# Altium footprint library diy-modules.PCBLIB: 111 footprints (part 5 of 7)
Each footprint in its own frame and in the unit in brackets; x right, y up, seen from the top. Pads: shape width x height; smd on the part's side, far side on the other; paste and mask are expansions set on the pad; w line width, h text height; cw(c..) or ccw(c..) is an arc to the next point about the centre after c.
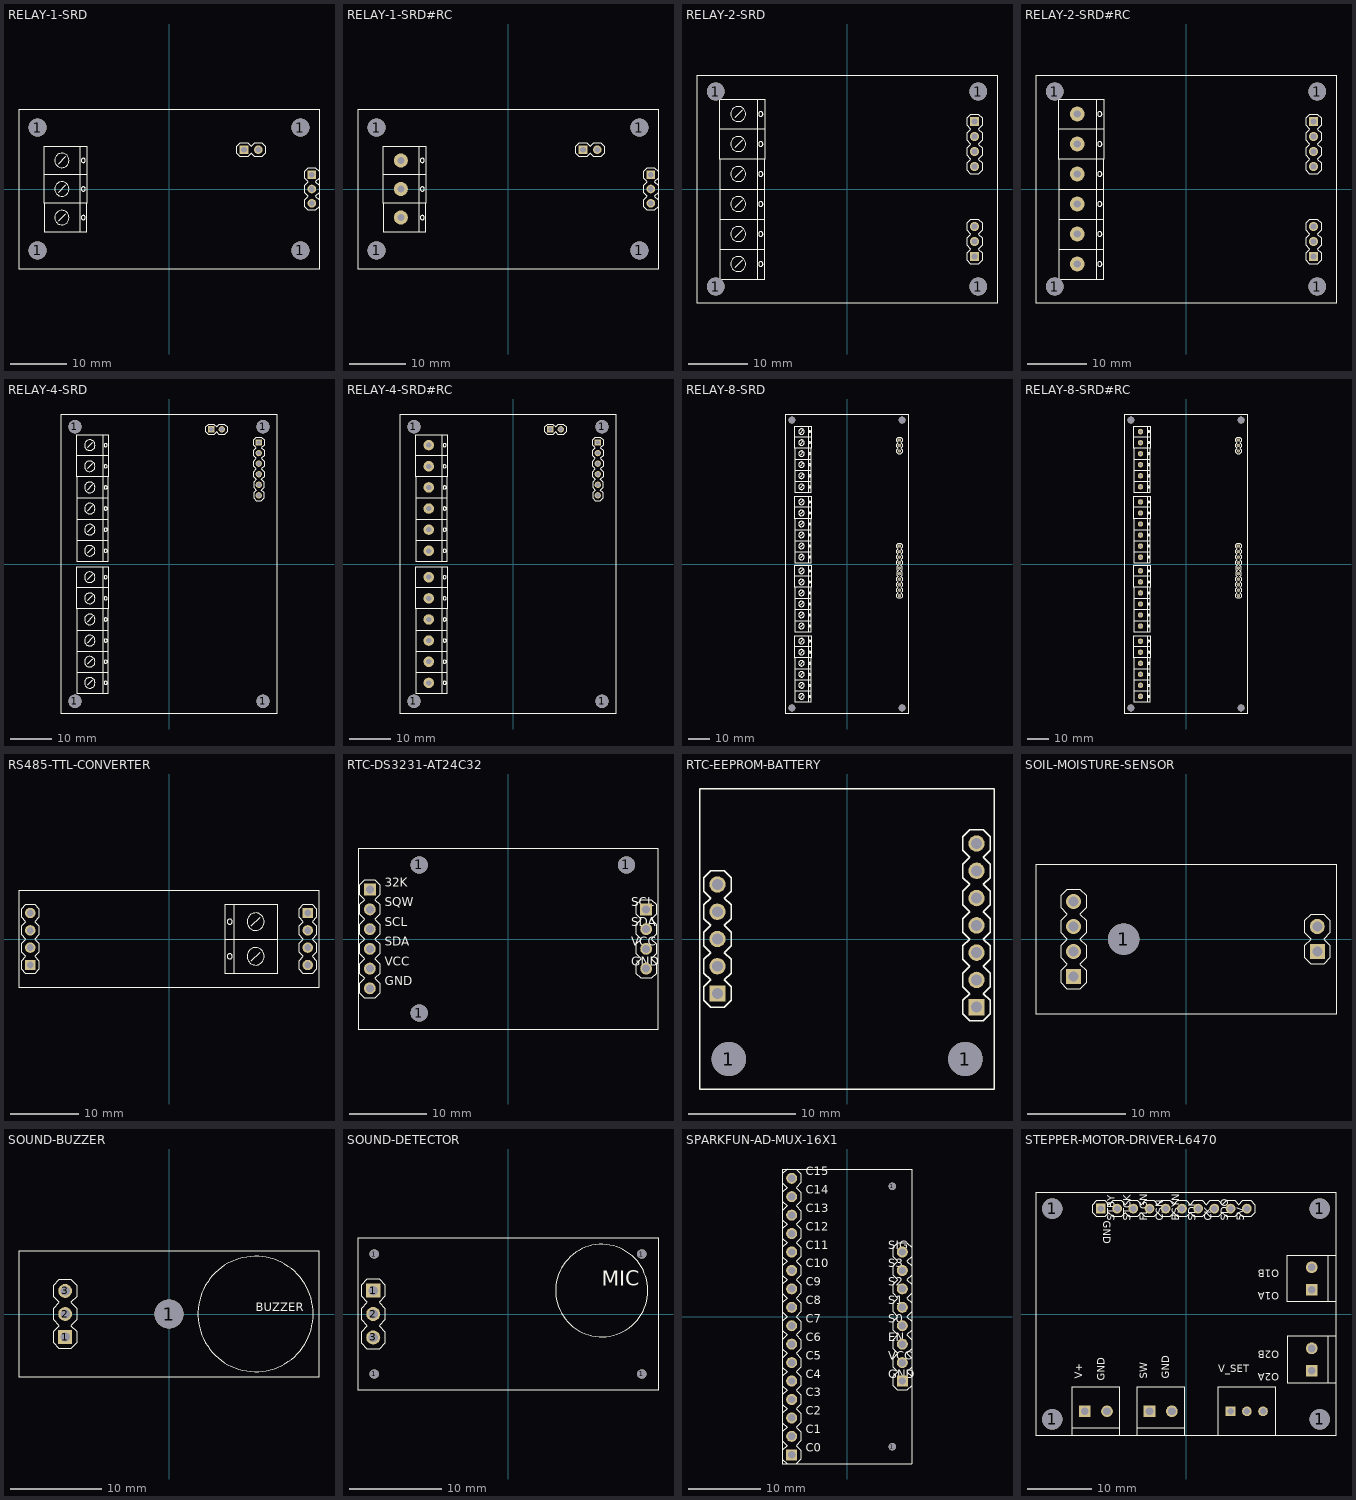
[diagram p4: the footprints below, top view; thin cyan lines are the x and y axes]

## RELAY-1-SRD [mil]
pads (9):
  round 126 hole 126: 1(-920,-430) 1(-920,430) 1(920,-430) 1(920,430)
  rect 60x60 hole 40: J1.1(1000,100) J2.1(525,275)
  round 60 hole 40: J1.2(1000,0) J1.3(1000,-100) J2.2(625,275)
Top Overlay:
  circle w5: c-600,200 r15
  circle w5: c-600,0 r15
  circle w5: c-600,-200 r15
  circle w5: c-750,0 r50
  circle w5: c-750,200 r50
  circle w5: c-750,-200 r50
  lines w5: -775,-225 -725,-175 ; -775,-25 -725,25 ; -775,175 -725,225 ; 1050,-125 1025,-150 975,-150 950,-125 950,-75 975,-50 950,-25 950,25 975,50 950,75 950,125 975,150 1025,150 1050,125 ; 1050,-75 1025,-50 1050,-25 ; 1050,25 1025,50 1050,75 ; -875,-100 -575,-100 ; -875,-100 -875,100 ; -875,-100 -875,-300 -625,-300 ; -875,100 -875,300 -625,300 ; -875,100 -575,100 ; -625,-300 -575,-300 -575,-100 ; -625,-300 -625,300 ; -625,300 -575,300 -575,100 ; -575,-100 -575,100 ; -1050,-560 1050,-560 1050,560 -1050,560 -1050,-560 ; 475,250 500,225 550,225 575,250 600,225 650,225 675,250 675,300 650,325 600,325 575,300 550,325 500,325 475,300 475,250

## RELAY-1-SRD#RC [mil]
pads (12):
  round 126 hole 126: 1(-920,-430) 1(-920,430) 1(920,-430) 1(920,430)
  rect 60x60 hole 40: J1.1(1000,100) J2.1(525,275)
  round 60 hole 40: J1.2(1000,0) J1.3(1000,-100) J2.2(625,275)
  round 99 hole 48: P1.1(-750,200) P1.2(-750,0) P1.3(-750,-200)
Top Overlay:
  circle w5: c-600,200 r15
  circle w5: c-600,0 r15
  circle w5: c-600,-200 r15
  lines w5: 1050,-125 1025,-150 975,-150 950,-125 950,-75 975,-50 950,-25 950,25 975,50 950,75 950,125 975,150 1025,150 1050,125 ; 1050,-75 1025,-50 1050,-25 ; 1050,25 1025,50 1050,75 ; -875,-100 -575,-100 ; -875,-100 -875,100 ; -875,-100 -875,-300 -625,-300 ; -875,100 -875,300 -625,300 ; -875,100 -575,100 ; -625,-300 -575,-300 -575,-100 ; -625,-300 -625,300 ; -625,300 -575,300 -575,100 ; -575,-100 -575,100 ; -1050,-560 1050,-560 1050,560 -1050,560 -1050,-560 ; 475,250 500,225 550,225 575,250 600,225 650,225 675,250 675,300 650,325 600,325 575,300 550,325 500,325 475,300 475,250

## RELAY-2-SRD [mil]
pads (11):
  round 119 hole 119: 1(-875,-650) 1(-875,650) 1(875,-650) 1(875,650)
  rect 60x60 hole 40: J1.1(850,450) J2.1(850,-450)
  round 60 hole 40: J1.2(850,350) J1.3(850,250) J1.4(850,150) J2.2(850,-350) J2.3(850,-250)
Top Overlay:
  circle w5: c-575,500 r15
  circle w5: c-575,300 r15
  circle w5: c-575,100 r15
  circle w5: c-575,-100 r15
  circle w5: c-575,-300 r15
  circle w5: c-575,-500 r15
  circle w5: c-725,300 r50
  circle w5: c-725,500 r50
  circle w5: c-725,100 r50
  circle w5: c-725,-100 r50
  circle w5: c-725,-300 r50
  circle w5: c-725,-500 r50
  lines w5: -750,-525 -700,-475 ; -750,-325 -700,-275 ; -750,-125 -700,-75 ; -750,75 -700,125 ; -750,275 -700,325 ; -750,475 -700,525 ; -850,-400 -850,-200 ; -850,-400 -550,-400 ; -850,-400 -850,-600 -600,-600 ; -850,-200 -850,0 ; -850,-200 -550,-200 ; -850,0 -850,200 ; -850,0 -550,0 ; -850,200 -550,200 ; -850,200 -850,400 ; -850,400 -850,600 -600,600 ; -850,400 -550,400 ; -600,-600 -550,-600 -550,-400 ; -600,-600 -600,600 ; -600,600 -550,600 -550,400 ; -550,-400 -550,-200 ; -550,-200 -550,0 ; -550,0 -550,200 ; -550,200 -550,400 ; -1000,-760 1000,-760 1000,760 -1000,760 -1000,-760 ; 800,-475 825,-500 875,-500 900,-475 900,-425 875,-400 900,-375 900,-325 875,-300 900,-275 900,-225 875,-200 825,-200 800,-225 800,-275 825,-300 800,-325 800,-375 825,-400 800,-425 800,-475 ; 800,125 825,100 875,100 900,125 900,175 875,200 900,225 900,275 875,300 900,325 900,375 875,400 900,425 900,475 875,500 825,500 800,475 800,425 825,400 800,375 800,325 825,300 800,275 800,225 825,200 800,175 800,125

## RELAY-2-SRD#RC [mil]
pads (17):
  round 119 hole 119: 1(-875,-650) 1(-875,650) 1(875,-650) 1(875,650)
  rect 60x60 hole 40: J1.1(850,450) J2.1(850,-450)
  round 60 hole 40: J1.2(850,350) J1.3(850,250) J1.4(850,150) J2.2(850,-350) J2.3(850,-250)
  round 99 hole 48: P1.1(-725,500) P1.2(-725,300) P1.3(-725,100) P1.4(-725,-100) P1.5(-725,-300) P1.6(-725,-500)
Top Overlay:
  circle w5: c-575,500 r15
  circle w5: c-575,300 r15
  circle w5: c-575,100 r15
  circle w5: c-575,-100 r15
  circle w5: c-575,-300 r15
  circle w5: c-575,-500 r15
  lines w5: -850,-400 -850,-200 ; -850,-400 -550,-400 ; -850,-400 -850,-600 -600,-600 ; -850,-200 -850,0 ; -850,-200 -550,-200 ; -850,0 -850,200 ; -850,0 -550,0 ; -850,200 -550,200 ; -850,200 -850,400 ; -850,400 -850,600 -600,600 ; -850,400 -550,400 ; -600,-600 -550,-600 -550,-400 ; -600,-600 -600,600 ; -600,600 -550,600 -550,400 ; -550,-400 -550,-200 ; -550,-200 -550,0 ; -550,0 -550,200 ; -550,200 -550,400 ; -1000,-760 1000,-760 1000,760 -1000,760 -1000,-760 ; 800,-475 825,-500 875,-500 900,-475 900,-425 875,-400 900,-375 900,-325 875,-300 900,-275 900,-225 875,-200 825,-200 800,-225 800,-275 825,-300 800,-325 800,-375 825,-400 800,-425 800,-475 ; 800,125 825,100 875,100 900,125 900,175 875,200 900,225 900,275 875,300 900,325 900,375 875,400 900,425 900,475 875,500 825,500 800,475 800,425 825,400 800,375 800,325 825,300 800,275 800,225 825,200 800,175 800,125

## RELAY-4-SRD [mil]
pads (12):
  round 126 hole 126: 1(-890,-1300) 1(-890,1300) 1(890,-1300) 1(890,1300)
  rect 60x60 hole 40: J1.1(850,1150) J2.1(400,1275)
  round 60 hole 40: J1.2(850,1050) J1.3(850,950) J1.4(850,850) J1.5(850,750) J1.6(850,650) J2.2(500,1275)
Top Overlay:
  circle w5: c-600,1125 r15
  circle w5: c-600,925 r15
  circle w5: c-600,725 r15
  circle w5: c-600,525 r15
  circle w5: c-600,325 r15
  circle w5: c-600,125 r15
  circle w5: c-750,925 r50
  circle w5: c-750,1125 r50
  circle w5: c-750,725 r50
  circle w5: c-750,525 r50
  circle w5: c-750,325 r50
  circle w5: c-750,125 r50
  circle w5: c-600,-125 r15
  circle w5: c-600,-325 r15
  circle w5: c-600,-525 r15
  circle w5: c-600,-725 r15
  circle w5: c-600,-925 r15
  circle w5: c-600,-1125 r15
  circle w5: c-750,-325 r50
  circle w5: c-750,-125 r50
  circle w5: c-750,-525 r50
  circle w5: c-750,-725 r50
  circle w5: c-750,-925 r50
  circle w5: c-750,-1125 r50
  lines w5: -775,-1150 -725,-1100 ; -775,-950 -725,-900 ; -775,-750 -725,-700 ; -775,-550 -725,-500 ; -775,-350 -725,-300 ; -775,-150 -725,-100 ; -775,100 -725,150 ; -775,300 -725,350 ; -775,500 -725,550 ; -775,700 -725,750 ; -775,900 -725,950 ; -775,1100 -725,1150 ; -875,-1025 -875,-825 ; -875,-1025 -575,-1025 ; -875,-1025 -875,-1225 -625,-1225 ; -875,-825 -875,-625 ; -875,-825 -575,-825 ; -875,-625 -875,-425 ; -875,-625 -575,-625 ; -875,-425 -575,-425 ; -875,-425 -875,-225 ; -875,-225 -875,-25 -625,-25 ; -875,-225 -575,-225 ; -875,225 -875,425 ; -875,225 -575,225 ; -875,225 -875,25 -625,25 ; -875,425 -875,625 ; -875,425 -575,425 ; -875,625 -875,825 ; -875,625 -575,625 ; -875,825 -575,825 ; -875,825 -875,1025 ; -875,1025 -875,1225 -625,1225 ; -875,1025 -575,1025 ; -625,-1225 -575,-1225 -575,-1025 ; -625,-1225 -625,-25 ; -625,-25 -575,-25 -575,-225 ; -625,25 -575,25 -575,225 ; -625,25 -625,1225 ; -625,1225 -575,1225 -575,1025 ; -575,-1025 -575,-825 ; -575,-825 -575,-625 ; -575,-625 -575,-425 ; -575,-425 -575,-225 ; -575,225 -575,425 ; -575,425 -575,625 ; -575,625 -575,825 ; -575,825 -575,1025 ; -1020,-1420 1020,-1420 1020,1420 -1020,1420 -1020,-1420 ; 350,1250 375,1225 425,1225 450,1250 475,1225 525,1225 550,1250 550,1300 525,1325 475,1325 450,1300 425,1325 375,1325 350,1300 350,1250 ; 800,625 800,675 825,700 800,725 800,775 825,800 800,825 800,875 825,900 800,925 800,975 825,1000 800,1025 800,1075 825,1100 800,1125 800,1175 825,1200 875,1200 900,1175 900,1125 875,1100 900,1075 900,1025 875,1000 900,975 900,925 875,900 900,875 900,825 875,800 900,775 900,725 875,700 900,675 900,625 875,600 825,600 800,625

## RELAY-4-SRD#RC [mil]
pads (24):
  round 126 hole 126: 1(-940,-1300) 1(-940,1300) 1(840,-1300) 1(840,1300)
  rect 60x60 hole 40: J1.1(800,1150) J2.1(350,1275)
  round 60 hole 40: J1.2(800,1050) J1.3(800,950) J1.4(800,850) J1.5(800,750) J1.6(800,650) J2.2(450,1275)
  round 99 hole 48: P1.1(-800,1125) P1.2(-800,925) P1.3(-800,725) P1.4(-800,525) P1.5(-800,325) P1.6(-800,125) P2.1(-800,-125) P2.2(-800,-325) P2.3(-800,-525) P2.4(-800,-725) P2.5(-800,-925) P2.6(-800,-1125)
Top Overlay:
  circle w5: c-650,1125 r15
  circle w5: c-650,925 r15
  circle w5: c-650,725 r15
  circle w5: c-650,525 r15
  circle w5: c-650,325 r15
  circle w5: c-650,125 r15
  circle w5: c-650,-125 r15
  circle w5: c-650,-325 r15
  circle w5: c-650,-525 r15
  circle w5: c-650,-725 r15
  circle w5: c-650,-925 r15
  circle w5: c-650,-1125 r15
  lines w5: -925,-1025 -925,-825 ; -925,-1025 -625,-1025 ; -925,-1025 -925,-1225 -675,-1225 ; -925,-825 -925,-625 ; -925,-825 -625,-825 ; -925,-625 -925,-425 ; -925,-625 -625,-625 ; -925,-425 -625,-425 ; -925,-425 -925,-225 ; -925,-225 -925,-25 -675,-25 ; -925,-225 -625,-225 ; -925,225 -925,425 ; -925,225 -625,225 ; -925,225 -925,25 -675,25 ; -925,425 -925,625 ; -925,425 -625,425 ; -925,625 -925,825 ; -925,625 -625,625 ; -925,825 -625,825 ; -925,825 -925,1025 ; -925,1025 -925,1225 -675,1225 ; -925,1025 -625,1025 ; -675,-1225 -625,-1225 -625,-1025 ; -675,-1225 -675,-25 ; -675,-25 -625,-25 -625,-225 ; -675,25 -625,25 -625,225 ; -675,25 -675,1225 ; -675,1225 -625,1225 -625,1025 ; -625,-1025 -625,-825 ; -625,-825 -625,-625 ; -625,-625 -625,-425 ; -625,-425 -625,-225 ; -625,225 -625,425 ; -625,425 -625,625 ; -625,625 -625,825 ; -625,825 -625,1025 ; -1070,-1420 970,-1420 970,1420 -1070,1420 -1070,-1420 ; 300,1250 325,1225 375,1225 400,1250 425,1225 475,1225 500,1250 500,1300 475,1325 425,1325 400,1300 375,1325 325,1325 300,1300 300,1250 ; 750,625 750,675 775,700 750,725 750,775 775,800 750,825 750,875 775,900 750,925 750,975 775,1000 750,1025 750,1075 775,1100 750,1125 750,1175 775,1200 825,1200 850,1175 850,1125 825,1100 850,1075 850,1025 825,1000 850,975 850,925 825,900 850,875 850,825 825,800 850,775 850,725 825,700 850,675 850,625 825,600 775,600 750,625

## RELAY-8-SRD [mil]
pads (17):
  round 126 hole 126: 1(-1000,-2610) 1(-1000,2610) 1(1000,-2610) 1(1000,2610)
  rect 60x60 hole 40: J1.1(950,325) J2.1(950,2250)
  round 60 hole 40: J1.2(950,225) J1.3(950,125) J1.4(950,25) J1.5(950,-75) J1.6(950,-175) J1.7(950,-275) J1.8(950,-375) J1.9(950,-475) J1.10(950,-575) J2.2(950,2150) J2.3(950,2050)
Top Overlay:
  drawing of 246 lines, arcs and shapes, not listed

## RELAY-8-SRD#RC [mil]
pads (41):
  round 126 hole 126: 1(-1000,-2610) 1(-1000,2610) 1(1000,-2610) 1(1000,2610)
  rect 60x60 hole 40: J1.1(950,325) J2.1(950,2250)
  round 60 hole 40: J1.2(950,225) J1.3(950,125) J1.4(950,25) J1.5(950,-75) J1.6(950,-175) J1.7(950,-275) J1.8(950,-375) J1.9(950,-475) J1.10(950,-575) J2.2(950,2150) J2.3(950,2050)
  round 99 hole 48: P1.1(-825,2400) P1.2(-825,2200) P1.3(-825,2000) P1.4(-825,1800) P1.5(-825,1600) P1.6(-825,1400) P2.1(-825,1125) P2.2(-825,925) P2.3(-825,725) P2.4(-825,525) P2.5(-825,325) P2.6(-825,125) P3.1(-825,-125) P3.2(-825,-325) P3.3(-825,-525) P3.4(-825,-725) P3.5(-825,-925) P3.6(-825,-1125) P4.1(-825,-1400) P4.2(-825,-1600) P4.3(-825,-1800) P4.4(-825,-2000) P4.5(-825,-2200) P4.6(-825,-2400)
Top Overlay:
  drawing of 198 lines, arcs and shapes, not listed

## RS485-TTL-CONVERTER [mil]
pads (8):
  rect 60x60 hole 40: J1.1(-800,-150) J2.1(800,150)
  round 60 hole 40: J1.2(-800,-50) J1.3(-800,50) J1.4(-800,150) J2.2(800,50) J2.3(800,-50) J2.4(800,-150)
Top Overlay:
  circle w5: c500,-100 r50
  circle w5: c500,100 r50
  circle w5: c350,-100 r15
  circle w5: c350,100 r15
  lines w5: 475,-125 525,-75 ; 475,75 525,125 ; 325,0 325,-200 375,-200 ; 325,0 325,200 375,200 ; 325,0 625,0 ; 375,-200 625,-200 625,0 ; 375,-200 375,200 ; 375,200 625,200 625,0 ; -865,-280 865,-280 865,280 -865,280 -865,-280 ; -850,-175 -825,-200 -775,-200 -750,-175 -750,-125 -775,-100 -750,-75 -750,-25 -775,0 -750,25 -750,75 -775,100 -750,125 -750,175 -775,200 -825,200 -850,175 -850,125 -825,100 -850,75 -850,25 -825,0 -850,-25 -850,-75 -825,-100 -850,-125 -850,-175 ; 750,-175 775,-200 825,-200 850,-175 850,-125 825,-100 850,-75 850,-25 825,0 850,25 850,75 825,100 850,125 850,175 825,200 775,200 750,175 750,125 775,100 750,75 750,25 775,0 750,-25 750,-75 775,-100 750,-125 750,-175

## RTC-DS3231-AT24C32 [mil]
pads (13):
  round 87 hole 87: 1(-450,-375) 1(-450,375) 1(600,375)
  rect 60x60 hole 40: J1.1(-700,250) J2.1(700,150)
  round 60 hole 40: J1.2(-700,150) J1.3(-700,50) J1.4(-700,-50) J1.5(-700,-150) J1.6(-700,-250) J2.2(700,50) J2.3(700,-50) J2.4(700,-150)
Top Overlay:
  lines w5: -760,-460 760,-460 760,460 -760,460 -760,-460 ; -750,-275 -750,-225 -725,-200 -750,-175 -750,-125 -725,-100 -750,-75 -750,-25 -725,0 -750,25 -750,75 -725,100 -750,125 -750,175 -725,200 -750,225 -750,275 -725,300 -675,300 -650,275 -650,225 -675,200 -650,175 -650,125 -675,100 -650,75 -650,25 -675,0 -650,-25 -650,-75 -675,-100 -650,-125 -650,-175 -675,-200 -650,-225 -650,-275 -675,-300 -725,-300 -750,-275 ; 650,-175 675,-200 725,-200 750,-175 750,-125 725,-100 750,-75 750,-25 725,0 750,25 750,75 725,100 750,125 750,175 725,200 675,200 650,175 650,125 675,100 650,75 650,25 675,0 650,-25 650,-75 675,-100 650,-125 650,-175
  text "32K" at -625,250 h77.5
  text "SQW" at -625,150 h77.5
  text "SCL" at -625,50 h77.5
  text "SDA" at -625,-50 h77.5
  text "VCC" at -625,-150 h77.5
  text "GND" at -625,-250 h77.5
  text "SCL" at 625,150 h77.5
  text "SDA" at 625,50 h77.5
  text "VCC" at 625,-50 h77.5
  text "GND" at 625,-150 h77.5

## RTC-EEPROM-BATTERY [mil]
pads (14):
  round 126 hole 126: 1(-433.07,-440) 1(434,-440)
  rect 60x60 hole 40: J1.1(-475,-200) J2.1(475,-250)
  round 60 hole 40: J1.2(-475,-100) J1.3(-475,0) J1.4(-475,100) J1.5(-475,200) J2.2(475,-150) J2.3(475,-50) J2.4(475,50) J2.5(475,150) J2.6(475,250) J2.7(475,350)
Top Overlay:
  lines w5: -540,-550 540,-550 540,550 -540,550 -540,-550 ; -525,-225 -500,-250 -450,-250 -425,-225 -425,-175 -450,-150 -425,-125 -425,-75 -450,-50 -425,-25 -425,25 -450,50 -425,75 -425,125 -450,150 -425,175 -425,225 -450,250 -500,250 -525,225 -525,175 -500,150 -525,125 -525,75 -500,50 -525,25 -525,-25 -500,-50 -525,-75 -525,-125 -500,-150 -525,-175 -525,-225 ; 425,-275 450,-300 500,-300 525,-275 525,-225 500,-200 525,-175 525,-125 500,-100 525,-75 525,-25 500,0 525,25 525,75 500,100 525,125 525,175 500,200 525,225 525,275 500,300 525,325 525,375 500,400 450,400 425,375 425,325 450,300 425,275 425,225 450,200 425,175 425,125 450,100 425,75 425,25 450,0 425,-25 425,-75 450,-100 425,-125 425,-175 450,-200 425,-225 425,-275

## SOIL-MOISTURE-SENSOR [mil]
pads (7):
  round 126 hole 126: 1(-250,0)
  rect 60x60 hole 40: J1.1(-450,-150) J2.1(525,-50)
  round 60 hole 40: J1.2(-450,-50) J1.3(-450,50) J1.4(-450,150) J2.2(525,50)
Top Overlay:
  lines w5: -600,-300 600,-300 600,300 -600,300 -600,-300 ; -500,-175 -475,-200 -425,-200 -400,-175 -400,-125 -425,-100 -400,-75 -400,-25 -425,0 -400,25 -400,75 -425,100 -400,125 -400,175 -425,200 -475,200 -500,175 -500,125 -475,100 -500,75 -500,25 -475,0 -500,-25 -500,-75 -475,-100 -500,-125 -500,-175 ; 475,-75 500,-100 550,-100 575,-75 575,-25 550,0 575,25 575,75 550,100 500,100 475,75 475,25 500,0 475,-25 475,-75

## SOUND-BUZZER [mil]
pads (4):
  rect 60x60 hole 40: 1(-450,-100)
  round 126 hole 126: 1(0,0)
  round 60 hole 40: 2(-450,0) 3(-450,100)
Top Overlay:
  circle w5: c375,0 r250
  lines w5: -650,-275 650,-275 650,275 -650,275 -650,-275 ; -500,-125 -475,-150 -425,-150 -400,-125 -400,-75 -425,-50 -400,-25 -400,25 -425,50 -400,75 -400,125 -425,150 -475,150 -500,125 -500,75 -475,50 -500,25 -500,-25 -475,-50 -500,-75 -500,-125
  text "BUZZER" at 375,0 h62

## SOUND-DETECTOR [mil]
pads (7):
  rect 60x60 hole 40: 1(-575,100)
  round 40 hole 40: 1(-570.87,-255.91) 1(-570.87,256) 1(571,-255.91) 1(571,256)
  round 60 hole 40: 2(-575,0) 3(-575,-100)
Top Overlay:
  circle w5: c400,100 r197
  lines w5: -640,-325 640,-325 640,325 -640,325 -640,-325 ; -625,-125 -600,-150 -550,-150 -525,-125 -525,-75 -550,-50 -525,-25 -525,25 -550,50 -525,75 -525,125 -550,150 -600,150 -625,125 -625,75 -600,50 -625,25 -625,-25 -600,-50 -625,-75 -625,-125
  text "MIC" at 400,100 h108.5

## SPARKFUN-AD-MUX-16X1 [mil]
pads (26):
  round 40 hole 40: 1(246,-705.91) 1(246,706)
  rect 60x60 hole 40: J1.1(-300,-750) J2.1(300,-350)
  round 60 hole 40: J1.2(-300,-650) J1.3(-300,-550) J1.4(-300,-450) J1.5(-300,-350) J1.6(-300,-250) J1.7(-300,-150) J1.8(-300,-50) J1.9(-300,50) J1.10(-300,150) J1.11(-300,250) J1.12(-300,350) J1.13(-300,450) J1.14(-300,550) J1.15(-300,650) J1.16(-300,750) J2.2(300,-250) J2.3(300,-150) J2.4(300,-50) J2.5(300,50) J2.6(300,150) J2.7(300,250) J2.8(300,350)
Top Overlay:
  drawing of 178 lines, arcs and shapes, not listed
  text "C0" at -225,-750 h77.5
  text "C1" at -225,-650 h77.5
  text "C2" at -225,-550 h77.5
  text "C3" at -225,-450 h77.5
  text "C4" at -225,-350 h77.5
  text "C5" at -225,-250 h77.5
  text "C6" at -225,-150 h77.5
  text "C7" at -225,-50 h77.5
  text "C8" at -225,50 h77.5
  text "C9" at -225,150 h77.5
  text "C10" at -225,250 h77.5
  text "C11" at -225,350 h77.5
  text "C12" at -225,450 h77.5
  text "C13" at -225,550 h77.5
  text "C14" at -225,650 h77.5
  text "C15" at -225,750 h77.5
  text "GND" at 225,-350 h77.5
  text "VCC" at 225,-250 h77.5
  text "EN" at 225,-150 h77.5
  text "S0" at 225,-50 h77.5
  text "S1" at 225,50 h77.5
  text "S2" at 225,150 h77.5
  text "S3" at 225,250 h77.5
  text "SIG" at 225,350 h77.5

## STEPPER-MOTOR-DRIVER-L6470 [mil]
pads (25):
  round 126 hole 126: 1(-825,-650) 1(-825,650) 1(825,-650) 1(825,650)
  rect 60x60 hole 40: JP1.1(-525,650) R4.1(275,-600)
  round 60 hole 40: JP1.2(-425,650) JP1.3(-325,650) JP1.4(-225,650) JP1.5(-125,650) JP1.6(-25,650) JP1.7(75,650) JP1.8(175,650) JP1.9(275,650) JP1.10(375,650) R4.2(375,-600) R4.3(475,-600)
  rect 72x72 hole 48: JP5.1(-625,-600) JP6.1(775,150) JP7.1(775,-350) JP8.1(-225,-600)
  round 72 hole 48: JP5.2(-487,-600) JP6.2(775,288) JP7.2(775,-212) JP8.2(-87,-600)
Top Overlay:
  lines w5: -700,-750 -412,-750 ; -700,-750 -925,-750 -925,750 925,750 925,363 ; -700,-750 -700,-700 ; -700,-700 -700,-450 -412,-450 -412,-700 ; -700,-700 -412,-700 ; -412,-750 -300,-750 ; -412,-750 -412,-700 ; -300,-750 -12,-750 ; -300,-750 -300,-700 ; -300,-700 -300,-450 -12,-450 -12,-700 ; -300,-700 -12,-700 ; -12,-750 200,-750 ; -12,-750 -12,-700 ; 200,-750 550,-750 ; 200,-750 200,-450 550,-450 550,-750 ; 550,-750 925,-750 925,-425 ; 875,-425 625,-425 625,-137 875,-137 ; 875,-425 925,-425 ; 875,-425 875,-137 ; 875,-137 925,-137 ; 875,75 925,75 ; 875,75 625,75 625,363 875,363 ; 875,75 875,363 ; 875,363 925,363 ; 925,-425 925,-137 ; 925,-137 925,75 ; 925,75 925,363 ; -575,625 -550,600 -500,600 -475,625 -450,600 -400,600 -375,625 -350,600 -300,600 -275,625 -250,600 -200,600 -175,625 -150,600 -100,600 -75,625 -50,600 0,600 25,625 50,600 100,600 125,625 150,600 200,600 225,625 250,600 300,600 325,625 350,600 400,600 425,625 425,675 400,700 350,700 325,675 300,700 250,700 225,675 200,700 150,700 125,675 100,700 50,700 25,675 0,700 -50,700 -75,675 -100,700 -150,700 -175,675 -200,700 -250,700 -275,675 -300,700 -350,700 -375,675 -400,700 -450,700 -475,675 -500,700 -550,700 -575,675 -575,625
  text "GND" at -525,575 h77.5
  text "STBY" at -425,575 h77.5
  text "STCK" at -325,575 h77.5
  text "FLGN" at -225,575 h77.5
  text "CSN" at -125,575 h77.5
  text "BSYN" at -25,575 h77.5
  text "SDI" at 75,575 h77.5
  text "CK" at 175,575 h77.5
  text "SDO" at 275,575 h77.5
  text "5V" at 375,575 h77.5
  text "V+" at -625,-400 h77.5
  text "GND" at -487,-412 h77.5
  text "SW" at -225,-400 h77.5
  text "GND" at -87,-400 h77.5
  text "O1B" at 575,288 h77.5
  text "O1A" at 575,150 h77.5
  text "O2B" at 575,-212 h77.5
  text "O2A" at 575,-350 h77.5
  text "V_SET" at 200,-375 h77.5